# Altium footprint library PCB_Lib.PcbLib: 296 footprints (part 14 of 19)
Each footprint in its own frame and in the unit in brackets; x right, y up, seen from the top. Pads: shape width x height; smd on the part's side, far side on the other; paste and mask are expansions set on the pad; w line width, h text height; cw(c..) or ccw(c..) is an arc to the next point about the centre after c.
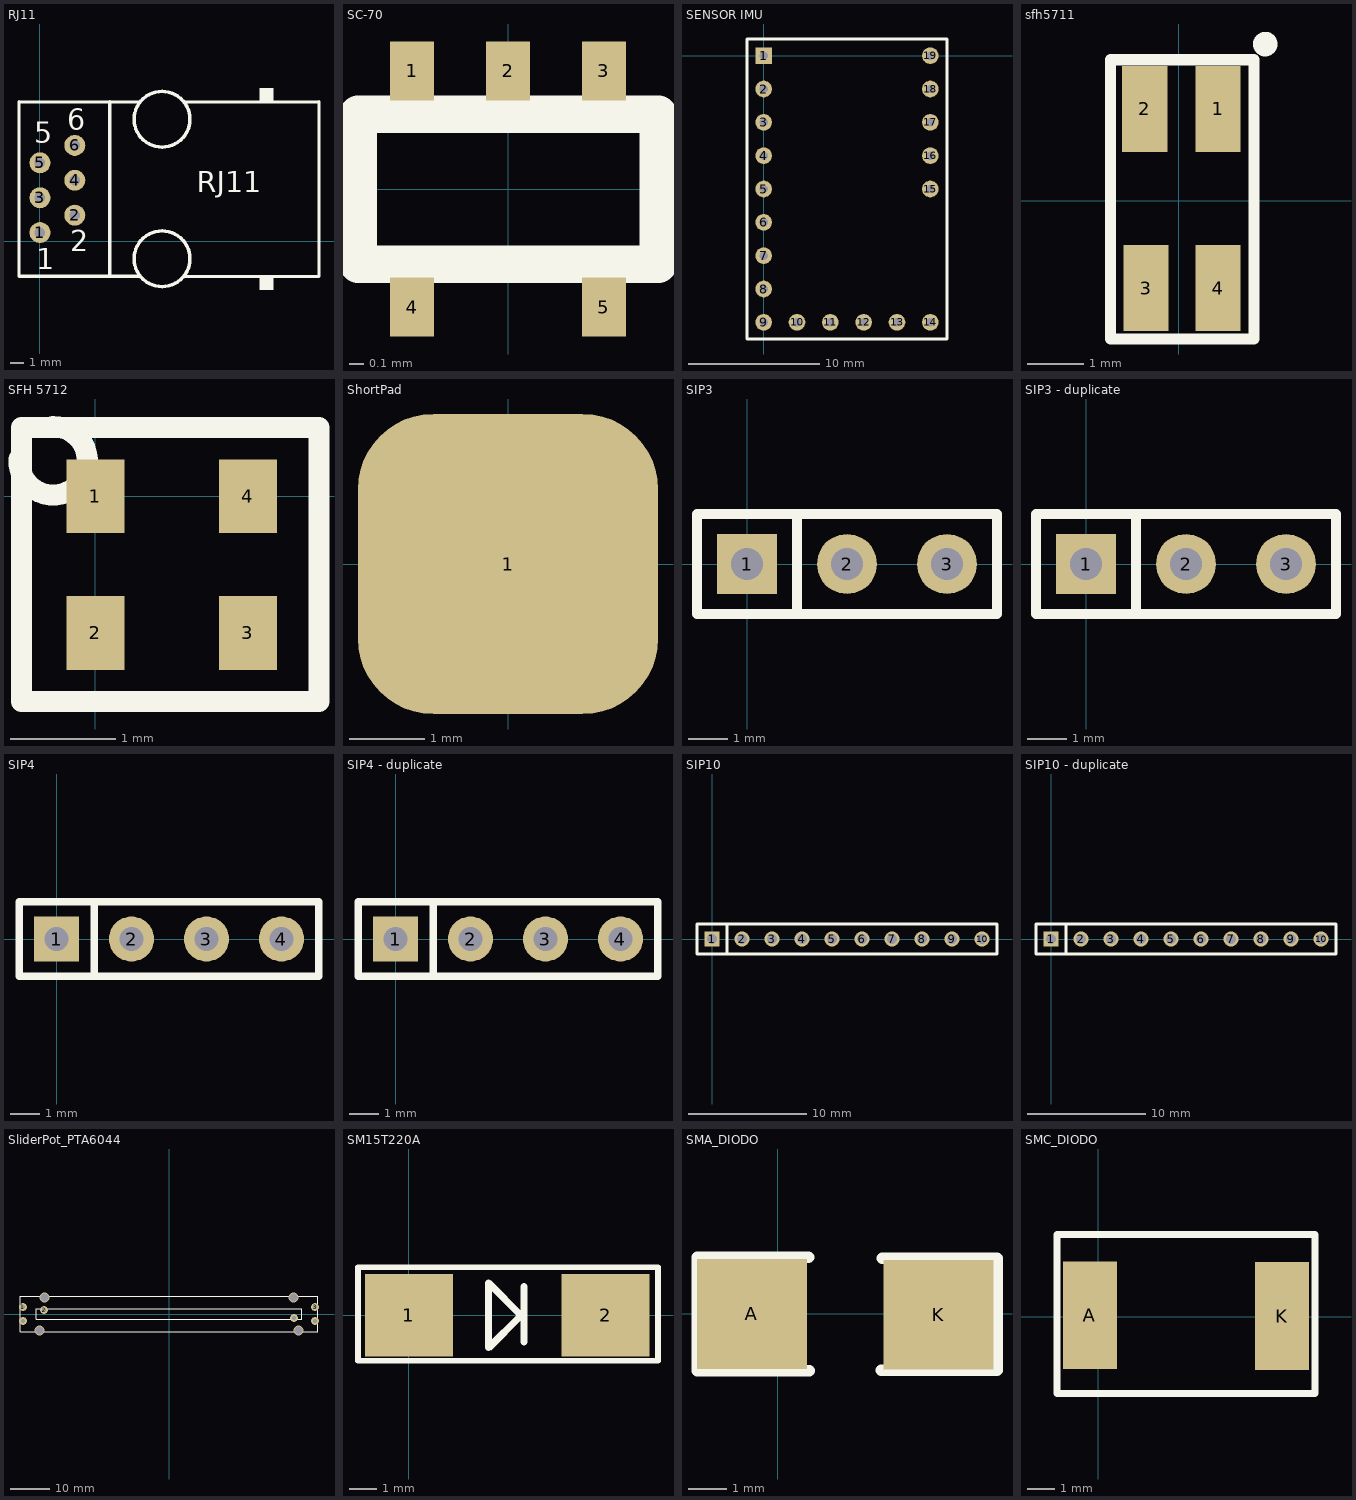
[diagram p13: the footprints below, top view; thin cyan lines are the x and y axes]

## RJ11 [mil]
pads (6):
  round 60 hole 30: 1(0,25) 2(100,75) 3(0,125) 4(100,175) 5(0,225) 6(100,275)
Top Overlay:
  circle w10: c350,350 r80
  circle w10: c350,-50 r80
  rectangle: 630,400 670,440
  rectangle: 630,-140 670,-100
  lines w10: 200,-100 200,400 ; 286,-100 -60,-100 -60,400 286,399.04 ; 412,-101 800,-100 800,400 417,399.03
  text "RJ11" at 450,140 h60
  text "6" at 79,320 h60
  text "5" at -16,282 h60
  text "1" at -11,-80 h60
  text "2" at 87,-29 h60

## SC-70 [mm] "Encapsulado SC-70 para termistores"
pads (5):
  rect 0.3x0.4 smd: 1(-0.65,0.8) 2(0,0.8) 3(0.65,0.8) 4(-0.65,-0.8) 5(0.65,-0.8)
Top Overlay:
  lines w0.254: -1.016,-0.508 -1.016,0 -1.016,0.508 1.016,0.508 1.016,-0.508 -1.016,-0.508

## SENSOR IMU [mil]
pads (19):
  rect 50x50 hole 25: 1(0,0)
  round 50 hole 25: 2(0,-100) 3(0,-200) 4(0,-300) 5(0,-400) 6(0,-500) 7(0,-600) 8(0,-700) 9(0,-800) 10(100,-800) 11(200,-800) 12(300,-800) 13(400,-800) 14(500,-800) 15(500,-400) 16(500,-300) 17(500,-200) 18(500,-100) 19(500,0)
Top Overlay:
  lines w10: -50,-850 -50,50 275,50 550,50 550,-850 -50,-850

## sfh5711 [mm]
pads (4):
  rect 0.8x1.525 smd: 1(0.7,1.625) 2(-0.6,1.625) 3(-0.575,-1.55) 4(0.7,-1.55)
Top Overlay:
  circle w0.254: c1.535,2.775 r0.09
  lines w0.2: -1.205,-2.45 -1.205,2.5 1.335,2.5 1.335,-2.45 -1.205,-2.45

## SFH 5712 [mm]
pads (4):
  rect 0.55x0.7 smd: 1(0,0) 2(0,-1.3) 3(1.45,-1.3) 4(1.45,0)
Top Overlay:
  lines w0.2: -0.725,0.35 ccw(c-0.4,0.335) -0.4,0.66 ; 0.4,0.65 2.125,0.65 2.125,-1.95 -0.7,-1.95 -0.7,0.65 1.05,0.65

## ShortPad [mm]
pads (1):
  rrect50% 4x4 smd: 1(0,0)

## SIP3 [mil]
pads (3):
  rect 60x60 hole 32: 1(0,0)
  round 60 hole 32: 2(100,0) 3(200,0)
Top Overlay:
  lines w10: 50,-50 50,50 ; -50,-50 -50,50 250,50 250,-50 -50,-50

## SIP3 - duplicate [mil]
pads (3):
  rect 60x60 hole 32: 1(0,0)
  round 60 hole 32: 2(100,0) 3(200,0)
Top Overlay:
  lines w10: 50,-50 50,50 ; -50,-50 250,-50 250,50 -50,50 -50,-50

## SIP4 [mil]
pads (4):
  rect 60x60 hole 32: 1(0,0)
  round 60 hole 32: 2(100,0) 3(200,0) 4(300,0)
Top Overlay:
  lines w10: 50,-50 50,50 ; -50,-50 350,-50 350,50 -50,50 -50,-50

## SIP4 - duplicate [mil]
pads (4):
  rect 60x60 hole 32: 1(0,0)
  round 60 hole 32: 2(100,0) 3(200,0) 4(300,0)
Top Overlay:
  lines w10: 50,-50 50,50 ; -50,-50 -50,50 350,50 350,-50 -50,-50

## SIP10 [mil]
pads (10):
  rect 50x50 hole 32: 1(0,0)
  round 50 hole 32: 2(100,0) 3(200,0) 4(300,0) 5(400,0) 6(500,0) 7(600,0) 8(700,0) 9(800,0) 10(900,0)
Top Overlay:
  lines w10: 50,-50 50,50 ; -50,-50 -50,50 950,50 950,-50 -50,-50

## SIP10 - duplicate [mil]
pads (10):
  rect 50x50 hole 32: 1(0,0)
  round 50 hole 32: 2(100,0) 3(200,0) 4(300,0) 5(400,0) 6(500,0) 7(600,0) 8(700,0) 9(800,0) 10(900,0)
Top Overlay:
  lines w10: 50,-50 50,50 ; -50,-50 950,-50 950,50 -50,50 -50,-50

## SliderPot_PTA6044 [mm]
pads (6):
  round 2 hole 1: 1(-36.8,1.75) 1'(-36.8,-1.75) 2(-31.5,1) 2'(31.5,-1) 3(36.8,1.75) 3'(36.8,-1.75)
via 31.4,4.2 diameter 2.5 hole 2
via -32.6,-4.2 diameter 2.5 hole 2
via 32.6,-4.2 diameter 2.5 hole 2
via -31.4,4.2 diameter 2.5 hole 2
Top Overlay:
  lines w0.254: -37.5,-4.5 -37.5,4.5 37.5,4.5 37.5,-4.5 -37.5,-4.5 ; -33.5,-1.3 -33.5,1.3 33.5,1.3 33.5,-1.3 -33.5,-1.3

## SM15T220A [mm]
pads (2):
  rect 3.2x3 smd: 1(0,0) 2(7.15,0)
Top Overlay:
  lines w0.2: -1.85,-1.65 -1.85,1.75 9.05,1.75 9.05,-1.65 -1.85,-1.65
  lines w0.254: 4.175,-0.975 4.175,1.05 ; 2.9,-1.175 2.9,1.175 4.075,0 2.9,-1.175

## SMA_DIODO [mm] "SMD R&C"
pads (2):
  rect 2.87x2.87 smd: A(-0.675,0) K(4.2,-0.025)
Top Overlay:
  lines w0.305: 0.8,1.475 -1.221,1.475 -2.1,1.475 -2.1,-1.485 0.818,-1.485 ; 2.7,-1.475 5.725,-1.475 5.725,1.45 2.725,1.45

## SMC_DIODO [mil] "SMD R&C"
pads (2):
  rect 78.74x157.48 smd: A(-12,2) K(269,1)
Top Overlay:
  lines w10: -60,-112 317,-112 317,1 317,120 -60,120 -60,12 -60,-112